# Altium footprint library SON.PcbLib: 5 footprints
Each footprint in its own frame and in the unit in brackets; x right, y up, seen from the top. Pads: shape width x height; smd on the part's side, far side on the other; paste and mask are expansions set on the pad; w line width, h text height; cw(c..) or ccw(c..) is an arc to the next point about the centre after c.
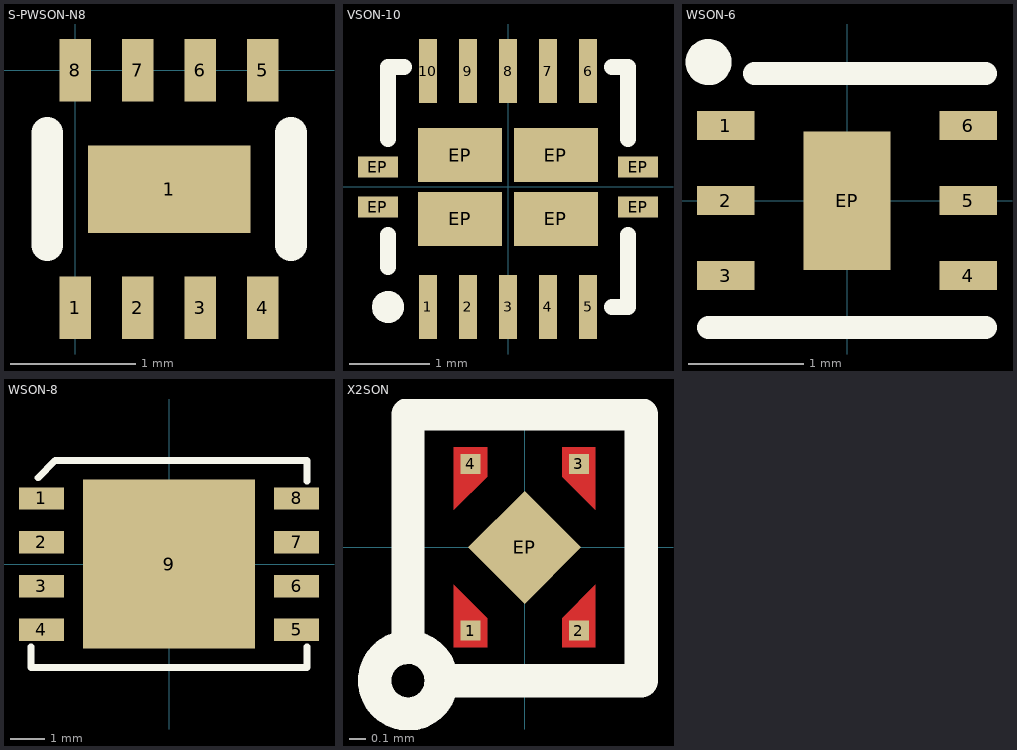
[diagram p0: the footprints below, top view; thin cyan lines are the x and y axes]

## S-PWSON-N8 [mm]
pads (9):
  rect 0.25x0.5 smd: 1(0,-1.9) 2(0.5,-1.9) 3(1,-1.9) 4(1.5,-1.9) 5(1.5,0) 6(1,0) 7(0.5,0) 8(0,0)
  rect 1.3x0.7 smd: 1(0.75,-0.95)
Top Overlay:
  lines w0.254: -0.225,-1.4 -0.225,-0.5 ; 1.725,-1.4 1.725,-0.5

## VSON-10 [mm]
pads (18):
  rect 0.23x0.8 smd: 1(-1,-1.5) 2(-0.5,-1.5) 3(0,-1.5) 4(0.5,-1.5) 5(1,-1.5) 6(1,1.45) 7(0.5,1.45) 8(0,1.45) 9(-0.5,1.45) 10(-1,1.45)
  rect 0.5x0.26 smd: EP(-1.625,-0.25) EP(-1.625,0.25) EP(1.625,-0.25) EP(1.625,0.25)
  rect 1.05x0.68 smd: EP(-0.6,-0.4) EP(-0.6,0.4) EP(0.6,-0.4) EP(0.6,0.4)
Top Overlay:
  circle w0.2: c-1.5,-1.5 r0.1
  lines w0.2: -1.5,-1 -1.5,-0.6 ; -1.5,0.6 -1.5,1.5 -1.3,1.5 ; 1.3,-1.5 1.5,-1.5 1.5,-0.6 ; 1.3,1.5 1.5,1.5 1.5,0.6
3D body "User Library-TPS74801.step": height 0.95, standoff -0.05, extent -1.5,-1.5 1.5,1.5

## WSON-6 [mm]
pads (7):
  rect 0.5x0.25 smd: 1(-1.05,0.65) 2(-1.05,0) 3(-1.05,-0.65) 4(1.05,-0.65) 5(1.05,0) 6(1.05,0.65)
  rect 0.75x1.2 smd: EP(0,0)
Top Overlay:
  circle w0.2: c-1.2,1.2 r0.1
  lines w0.2: -1.2,-1.1 1.2,-1.1 ; -0.8,1.1 1.2,1.1
3D body: height 0.8, standoff 0, extent -1.25,-1.1 1.25,1.1

## WSON-8 [mm] "WSON 8pin 8x6mm"
pads (9):
  rect 1.3x0.65 smd: 1(-3.7,1.9) 2(-3.7,0.63) 3(-3.7,-0.64) 4(-3.7,-1.91) 5(3.7,-1.91) 6(3.7,-0.64) 7(3.7,0.63) 8(3.7,1.9)
  rect 5x4.9 smd: 9(0,0)
Top Overlay:
  lines w0.2: -4,-2.4 -4,-3 3,-3 4,-3 4,-2.4 ; -3.8,2.5 -3.3,3 4,3 4,2.4
3D body "User Library-WSON-8_6x8mm.STEP": height 0.81, standoff -0.07, extent -4,-3 4,3

## X2SON [mm]
pads (5):
  rect 0.12x0.12 smd: 1(-0.325,-0.5) 2(0.325,-0.5) 3(0.325,0.5) 4(-0.325,0.5)
  rect 0.48x0.48 smd rot 45 mask+0: EP(0,0)
Top Layer:
  region: 0.425,-0.225 0.425,-0.6 0.225,-0.6 0.225,-0.425
  region: 0.425,0.225 0.425,0.6 0.225,0.6 0.225,0.425
  region: -0.425,0.225 -0.425,0.6 -0.225,0.6 -0.225,0.425
  region: -0.425,-0.225 -0.425,-0.6 -0.225,-0.6 -0.225,-0.425
Top Overlay:
  circle w0.2: c-0.7,-0.8 r0.2
  lines w0.2: -0.7,-0.6 -0.7,0.8 0.7,0.8 0.7,-0.8 -0.5,-0.8
Top Solder:
  rectangle: -0.5,-0.5 0.5,0.5
3D body: height 0.38, standoff 0, extent -0.5,-0.5 0.5,0.5